# Altium schematic symbol library syhaunguyen.SchLib: 383 symbols (part 3 of 3)
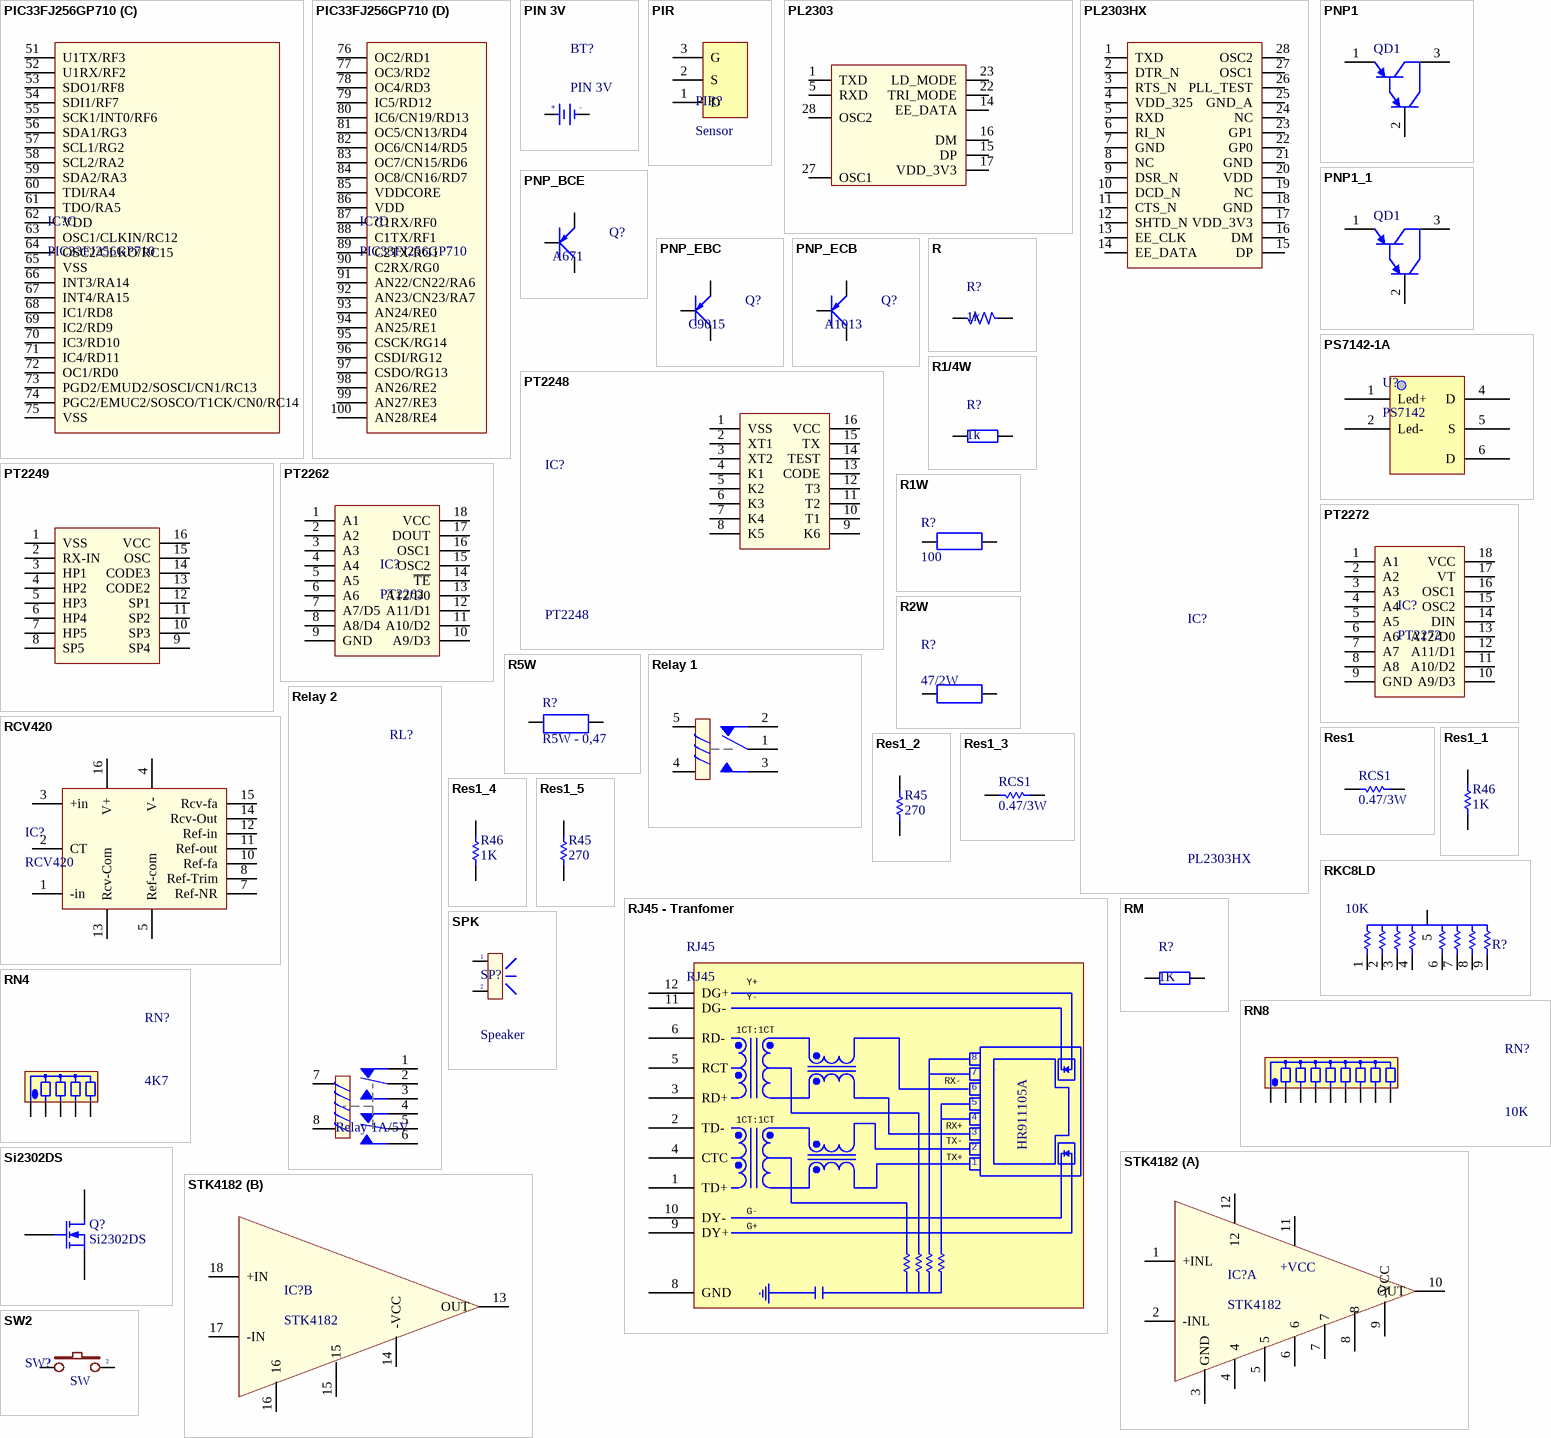
[diagram p16: symbols PIC33FJ256GP710 to SW2]

## PT2249
designator IC?
Remote Control Receiver; Value: PT2249
footprint DIP16/W0.3 (16 PIN, W 300mil, Pin to pin 100mil)
pins: 1 VSS, 2 RX-IN, 3 HP1, 4 HP2, 5 HP3, 6 HP4, 7 HP5, 8 SP5, 9 SP4, 10 SP3, 11 SP2, 12 SP1, 13 CODE2, 14 CODE3, 15 OSC, 16 VCC

## PT2262
designator IC?
Remote Control Encoder
footprint DIP18/W0.3 (18 PIN, W 300mil, Pin to pin 100mil)
pins: 1 A1, 2 A2, 3 A3, 4 A4, 5 A5, 6 A6, 7 A7/D5, 8 A8/D4, 9 GND, 10 A9/D3, 11 A10/D2, 12 A11/D1, 13 A12/D0, 14 ~{TE}, 15 OSC2, 16 OSC1, 17 DOUT, 18 VCC

## PT2272
designator IC?
Remote Control Decoder
footprint DIP18/W0.3 (18 PIN, W 300mil, Pin to pin 100mil)
pins: 1 A1, 2 A2, 3 A3, 4 A4, 5 A5, 6 A6, 7 A7, 8 A8, 9 GND, 10 A9/D3, 11 A10/D2, 12 A11/D1, 13 A12/D0, 14 DIN, 15 OSC2, 16 OSC1, 17 VT, 18 VCC

## R
designator R?, comment 1k
Resistor 1/4W; Value: R1/4W - 1K
footprint SM-RES-1206
pins: 1, 2

## R1/4W
designator R?, comment 1k
Resistor 1/4W; Value: R1/4W - 1K
footprint R1/4W (R 1/4W, 2 Pin, 350mil)
footprint R1/8W (R 1/8W, 2 pin, 300mil)
footprint R1/2W (R 1/2W, 2 pin, 400mil)
footprint R1/4WD (R 1/4W, 2 Pin, 150mil)
footprint SM-RES-0805
pins: 1, 2

## R1W
designator R?, comment 100
Resistor 1W; Value: R1W - 100
footprint R1W (R 1W, 2 pin, 500mil)
footprint R1WD (R 1W, 2 pin, 500mil)
pins: 1, 2

## R2W
designator R?, comment 47/2W
Resistor 2W; Value: R2W - 47
footprint R2W (R2W, 2 pin, 700mil)
footprint R2WD (R2W, 2 pin, 700mil)
pins: 1, 2

## R5W
designator R?, comment R5W - 0,47
Resistor 5W; Value: R5W - 0,47R
footprint R5W (R5W , 2 pin, 950mil)
footprint R5WD (R5W , 2 pin, 300 x 600 mil)
pins: 1 "R5W", 2 "R5W"

## RCV420
designator IC?
Precision 4mA to 20mA  CURRENT LOOP RECEIVER; Designed by: VanDungEvn; Value: RCV420
footprint DIP16/W0.3 (16 PIN, W 300mil, Pin to pin 100mil)
pins: 1 -in, 2 CT, 3 +in, 4 V-, 5 Ref-com, 7 Ref-NR, 8 Ref-Trim, 10 Ref-fa, 11 Ref-out, 12 Ref-in, 13 Rcv-Com, 14 Rcv-Out, 15 Rcv-fa, 16 V+

## Relay 1
designator RL?, comment Relay 10A/12V
Relay SPDT,10A - 12VDC 5 Pin; Value: Relay SPDT, 10A, 12V
footprint RL_SPDT_10A (Relay SPDT, 5 pin, 10A,W 650mil, L 800mil, H 800mil)
footprint RL_T78
pins: 1, 2, 3, 4, 5

## Relay 2
designator RL?, comment Relay 1A/5V
Relay DPDT; Discription: Relay DPDT 5V, 12V - 1A - 5A; Value: Relay - 5V - 1A
footprint RL_DPDT_5A (Reley DPDT, 8 pin, 5A, W500mil, L1100mil,H 950mil)
footprint RL_DPDT_1A (Reley DPDT, 8 pin, 1A, W400mil, L800mil,H 300mil)
pins: 1, 2, 3, 4, 5, 6, 7, 8

## Res1
designator RCS1  value 0.47/3W  (hidden comment: Res1)
Resistor; Manufacturer: Generic Components; Class: Passive; Published: 08/06/2000; Publisher: Altium Hobart Technology Centre; SubClass: Resistor
footprint R1WD (R 1W, 2 pin, 500mil)
pins: 1, 2

## Res1_1
designator R46, comment value 1K  (hidden comment: Res1)
Resistor; Manufacturer: Generic Components; Class: Passive; Published: 08/06/2000; Publisher: Altium Hobart Technology Centre; SubClass: Resistor
footprint TRO_NHO
simulation model RESISTOR (Resistor)
signal-integrity model Res1
footprint R1/4W
pins: 1, 2

## Res1_2
designator R45, comment value 270  (hidden comment: Res1)
Resistor; Manufacturer: Generic Components; Class: Passive; Published: 08/06/2000; Publisher: Altium Hobart Technology Centre; SubClass: Resistor
footprint TRO_NHO
simulation model RESISTOR (Resistor)
signal-integrity model Res1
footprint R1/4W1 (R 1/4W, 2 Pin, 150mil)
pins: 1, 2

## Res1_3
designator RCS1, comment value 0.47/3W  (hidden comment: Res1)
Resistor; Manufacturer: Generic Components; Class: Passive; Published: 08/06/2000; Publisher: Altium Hobart Technology Centre; SubClass: Resistor
footprint R1WD (R 1W, 2 pin, 500mil)
pins: 1, 2

## Res1_4
designator R46, comment value 1K  (hidden comment: Res1)
Resistor; Manufacturer: Generic Components; Class: Passive; Published: 08/06/2000; Publisher: Altium Hobart Technology Centre; SubClass: Resistor
footprint TRO_NHO
simulation model RESISTOR (Resistor)
signal-integrity model Res1
footprint R1/4W
pins: 1, 2

## Res1_5
designator R45, comment value 270  (hidden comment: Res1)
Resistor; Manufacturer: Generic Components; Class: Passive; Published: 08/06/2000; Publisher: Altium Hobart Technology Centre; SubClass: Resistor
footprint TRO_NHO
simulation model RESISTOR (Resistor)
signal-integrity model Res1
footprint R1/4W1 (R 1/4W, 2 Pin, 150mil)
pins: 1, 2

## RJ45 - Tranfomer
designator RJ45, comment RJ45
footprint RJ45 Tranfomer
pins: 1 TD+, 2 TD-, 3 RD+, 4 CTC, 5 RCT, 6 RD-, 8 GND (power), 9 DY+, 10 DY-, 11 DG-, 12 DG+
text: Y+; Y-; 1CT:1CT; 7; RX-; RX+; TX-; HR911105A; TX+; G-; G+

## RKC8LD
designator R?, comment 10K
Resistor Pack 4x2; Value: 10K
footprint RN8 (R SIP8, 9 Pin)
pins: 1, 2, 3, 4, 5, 6, 7, 8, 9

## RM
designator R?, comment 1K
Resistor SMD; Value: 1K
footprint SM-1206 (Compoment SMD 120x60mil)
footprint SM-0805 (Compoment SMD 80x50mil)
pins: 1, 2

## RN4
designator RN?, comment 4K7
Resistor 4 (thanh); Value: Tro thanh 4K7
footprint RN4 (R SIP4, 5 Pin)
pins: 1, 2, 3, 4, 5

## RN8
designator RN?, comment 10K
Resistor 8 (Thanh); Value: Tro thanh 10K
footprint RN8 (R SIP8, 9 Pin)
pins: 1, 2, 3, 4, 5, 6, 7, 8, 9

## Si2302DS
designator Q?
N-Channel MOSFET; Published: 8-Jun-2000; LatestRevisionDate: 17-Jul-2002; LatestRevisionNote: Re-released for DXP Platform.; PackageVersion: 1995/1996; PackageReference: E3; Publisher: Altium Limited; PackageDescription: TO, Flat Index; 3 In-Line, Axial Leads; Body Dia. 4.6mm; Lead Dia. 0.5 mm (max)
footprint SOT23 (SOT 23 _ 1-3-2)
pins: 1 G, 2 S, 3 D

## SPK
designator SP?, comment Speaker
Speaker Chip; Value: Speaker Chip
footprint SPK (Speaker Chip)
footprint SP1 (Speaker Telphone on Broad)
pins: 1, 2

## STK4182
designator IC?
AF Power Amplifier 2x10W
footprint STK4182 (Pin to pin 100mil, 18 pin)
part A pins: 1 +INL, 2 -INL, 3 GND, 4, 5, 6, 7, 8, 9 -VCC, 10 OUT, 11 +VCC, 12
part B pins: 13 OUT, 14 -VCC, 15, 16, 17 -IN, 18 +IN

## SW2
designator SW?, comment SW
Switch button 2 pin; Value: SW chip 2 pin
footprint SW2 (SW button 2pin, 250x 250 mil)
pins: 1, 2

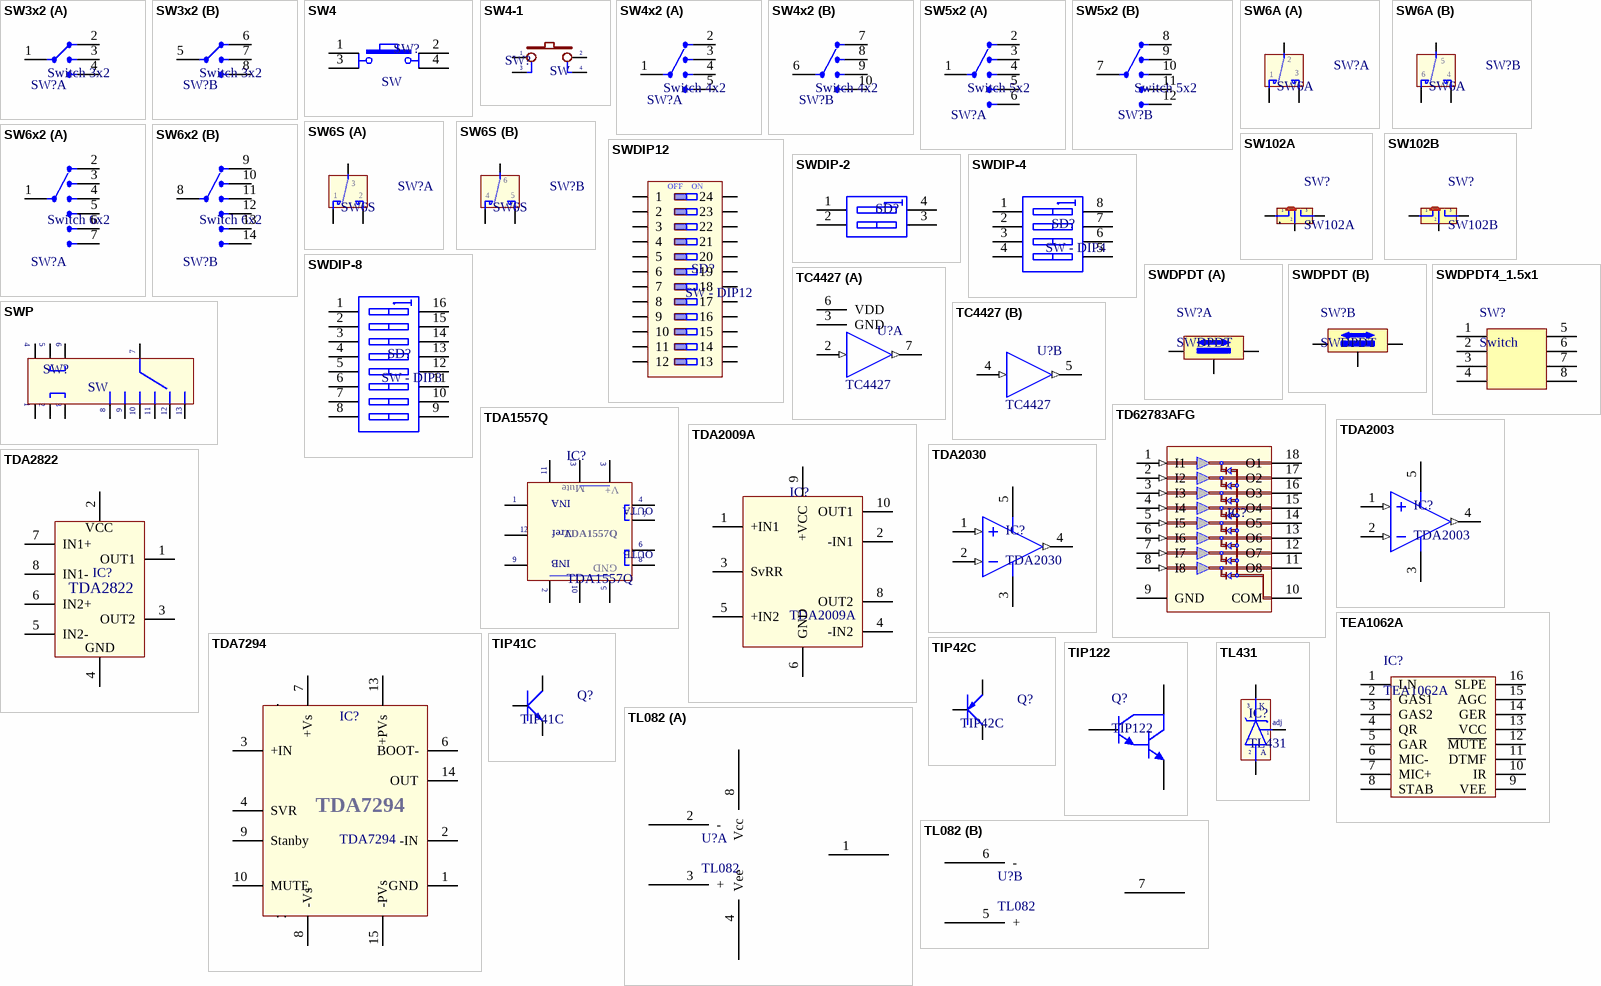
[diagram p12: symbols SW3x2 to TL431]

## SW3x2
designator SW?, comment Switch 3x2
Value: Switch 4x2
footprint SW3X2 (Switch 3x2 - pin to pin 80)
part A pins: 1 Com, 2 I/O1, 3 I/O2, 4 I/O3
part B pins: 5 I/O10, 6 I/O9, 7 Com2, 8 I/O6

## SW4
designator SW?, comment SW
Switch button 4 pin; Value: Button chip 4 pin
footprint SW4 (SW button 4pin, 250 x250 mil)
footprint SW4B (SW button 4pin, 450 x 450 mil)
pins: 1, 2, 3, 4

## SW4-1
designator SW?, comment SW
Switch button 4 pin; Value: SW chip 4 pin
footprint SW4 (SW button 4pin, 250 x250 mil)
footprint SW4B (SW button 4pin, 450 x 450 mil)
pins: 1, 2, 3, 4

## SW4x2
designator SW?, comment Switch 4x2
Value: Switch 4x2
footprint SW4X2 (Switch 4x2)
part A pins: 1 Com, 2 I/O1, 3 I/O2, 4 I/O3, 5 I/O4
part B pins: 6 I/O9, 7 Com2, 8 I/O6, 9 I/O7, 10 I/O8

## SW5x2
designator SW?, comment Switch 5x2
Value: Switch 5x2
footprint SW5X2 (Switch 5x2)
part A pins: 1 Com, 2 I/O1, 3 I/O2, 4 I/O3, 5 I/O4, 6 I/O5
part B pins: 7 Com2, 8 I/O6, 9 I/O7, 10 I/O8, 11 I/O9, 12 I/O10

## SW6A
designator SW?
SW-DTDP - 6 Pin; Value: SW6
footprint SW6 (SW DTDP - 6Pin 260x300x300 mil)
part A pins: 1, 2, 3
part B pins: 4, 5, 6

## SW6S
designator SW?
SW-DTDP - 6 Pin; Value: SW6
footprint SW6 (SW DTDP - 6Pin 260x300x300 mil)
part A pins: 1, 2, 3
part B pins: 4, 5, 6

## SW6x2
designator SW?, comment Switch 6x2
Value: Switch 6x2
footprint SW6X2 (Switch 6x2)
part A pins: 1 Com, 2 I/O1, 3 I/O2, 4 I/O3, 5 I/O4, 6 I/O5, 7 I/O6
part B pins: 8 I/O6, 9 I/O7, 10 I/O8, 11 I/O9, 12 I/O10, 13 I/O11, 14 I/O12

## SW102A
designator SW?
Switch 102 on Broad; Value: Switch 102 On Board
footprint SW102 (Switch 102 On Board nho)
footprint SW102T (Switch 102 On Board To)
pins: 1, 2, 3, 4, 5

## SW102B
designator SW?
Switch 102 on Broad; Value: Switch 102 On Board
footprint SW-GAT
footprint SW102T (Switch 102 On Board To)
pins: 1, 2, 3

## SWDIP12
designator SD?, comment SW - DIP12
DIP Switch, 12 Position, SPST; Value: SW - DIP12
footprint DIP24/W0.3 (DIP24/W.300, Pin to pin 100mil)
pins: 1, 2, 3, 4, 5, 6, 7, 8, 9, 10, 11, 12, 13, 14, 15, 16, 17, 18, 19, 20, 21, 22, 23, 24
text: OFF; ON

## SWDIP-2
designator SD?, comment SW - DIP2  (value not drawn)
DIP Switch, 2 Position, SPST; Value: SW - DIP2
footprint DIP4/W0.3 KEY (4 PIN, W 400mil , L 450mil,Pin to pin 100mil)
pins: 1 A1, 2 A2, 3 A3, 4 A4

## SWDIP-4
designator SD?, comment SW - DIP4
DIP Switch, 4 Position, SPST; Value: SW - DIP4
footprint DIP8/W0.3 KEY (8 PIN, W 400mil , L 450mil, Pin to pin 100mil)
pins: 1 A1, 2 A2, 3 A3, 4 A4, 5 B4, 6 B3, 7 B2, 8 B1

## SWDIP-8
designator SD?, comment SW - DIP8
DIP Switch, 8 Position, SPST; Value: SW - DIP8
footprint DIP16/W0.3 KEY (16 PIN, W 300mil, Pin to pin 100mil)
simulation model dpsw8 (Spice Subcircuit)
pins: 1 A1, 2 A2, 3 A3, 4 A4, 5 A5, 6 A6, 7 A7, 8 A8, 9 B8, 10 B7, 11 B6, 12 B5, 13 B4, 14 B3, 15 B2, 16 B1

## SWDPDT
designator SW?
Switch SPDT; Creat by: VanDungEvn@Gmail.com
footprint SWDPDT_1.5x1 (Switch DPDT, Pin to Pin 150mil, Row to Row 100mil)
footprint SWDPDT_1.5x2 (Switch DPDT, Pin to Pin 150mil, Row to Row 200mil)
part A pins: 1, 2, 3
part B pins: 4, 5, 6

## SWDPDT4_1.5x1
designator SW?, comment Switch
Switch 1-3 x2
footprint SWDPDT4_1.5x1 (Switch 3 DPDT, Pin to Pin 150mil, Row to Row 100mil)
pins: 1, 2, 3, 4, 5, 6, 7, 8

## SWP
designator SW?, comment SW
Switch Power; Value: SW Power
footprint SWP (SW Power)
pins: 1, 2, 3, 4, 5, 6, 7, 8, 9, 10, 11, 12, 13

## TC4427
designator U?
footprint DIP 8
part A pins: 1 NC (power) hidden, 2 A (in), 3 GND (power), 6 VDD (power), 7 Y (out), 8 NC (power) hidden
part B pins: 4 A (in), 5 Y (out)

## TD62783AFG
designator IC?  (value not drawn)
High-Voltage, High-Current Darlington Array; Value: TD62783AFG
footprint DIP18/W0.3 (18 PIN, W 300mil, Pin to pin 100mil)
pins: 1 I1 (in), 2 I2 (in), 3 I3 (in), 4 I4 (in), 5 I5 (in), 6 I6 (in), 7 I7 (in), 8 I8 (in), 9 GND (power), 10 COM, 11 O8 (oc), 12 O7 (oc), 13 O6 (oc), 14 O5 (oc), 15 O4 (oc), 16 O3 (oc), 17 O2 (oc), 18 O1 (oc)

## TDA1557Q
designator IC?
2 x 22 W BTL stereo car radio power amplifier with speaker protection; Value: TDA1557Q
footprint DIP13/S1 (13 Pin so le hai hang cach nhau 200mil., Pin to pin 100mil)
pins: 1 IN1, 2 GND, 3 V+, 4 OUT1A, 5 GND, 6 OUT1B, 7 OUT2A, 8 OUT2B, 9 IN2, 10 GND, 11 Mute, 12 Vref, 13 V+
text: INA; OUTA; OUTB; INB

## TDA2003
designator IC?
10W CAR RADIO AUDIO AMPLIFIER; Value: TDA2003
footprint DIP5SL1
pins: 1 IN+ (in), 2 IN- (in), 3 V- (power), 4 OUT (out), 5 V+ (power)

## TDA2009A
designator IC?
2 x 10 W BTL stereo car radio power amplifier with speaker protection; Value: TDA1557Q
footprint DIP11/S1 (11 Pin so le hai hang cach nhau 200mil., Pin to pin 100mil)
pins: 1 +IN1, 2 -IN1, 3 SvRR, 4 -IN2, 5 +IN2, 6 GND, 8 OUT2, 9 +VCC, 10 OUT1

## TDA2030
designator IC?
14W Hi-Fi AUDIO AMPLIFIER; Value: TDA2030
footprint DIP5SL1
pins: 1 IN+ (in), 2 IN- (in), 3 V- (power), 4 OUT (out), 5 V+ (power)

## TDA2822
designator IC?  (value not drawn)
Dual Low Voltage Power Amplifire
footprint DIP8/W0.3 (8 PIN, W 300mil, Pin to pin 100mil)
pins: 1 OUT1, 2 VCC, 3 OUT2, 4 GND "VCC", 5 IN2- "VCC", 6 IN2+ "VCC", 7 IN1+ "VCC", 8 IN1- "VCC"

## TDA7294
designator IC?
100V - 100W DMOS AUDIO AMPLIFIER WITH MUTE/ST-BY; Value: TDA1557Q
footprint DIP15SL2 (TO, Thru-Hole, Vertical, Heatsink Mounted; 15 Bent Staggered Leads; Pitch 1.27 mm)
pins: 1 GND, 2 -IN, 3 +IN, 4 SVR, 5 NC, 6 BOOT-, 7 +Vs, 8 -Vs, 9 Stanby, 10 MUTE, 11 NC, 12 NC, 13 +PVs, 14 OUT, 15 -PVs

## TEA1062A
designator IC?
Low voltage transmission circuits with dialler interface; Creat by: VanDungEvn@Gmail.com
footprint DIP16/W0.3 (16 PIN, W 300mil, Pin to pin 100mil)
pins: 1 LN, 2 GAS1, 3 GAS2, 4 QR, 5 GAR, 6 MIC-, 7 MIC+, 8 STAB, 9 VEE, 10 IR, 11 DTMF, 12 ~{MUTE}, 13 VCC, 14 GER, 15 AGC, 16 SLPE

## TIP41C
designator Q?
NPN 2W, BCE; Value: TIP41C
footprint QTO-220 (TO-220 - 1-2-3)
pins: 1 B, 2 C, 3 E

## TIP42C
designator Q?
PNP 2W, BCE; Value: TIP42C
footprint QTO-220 (TO-220 - 1-2-3)
pins: 1 B, 2 C, 3 E

## TIP122
designator Q?
Darlington Silicon Power NPN Transistor, 8 Amp, 100 Volts and 65 Watts
footprint QTO-220 (TO-220 - 1-2-3)
pins: 1 B, 2 C, 3 E

## TL082
designator U?
Wide Bandwidth Dual JFET Input Operational Amplifier
footprint DIP8/W0.3 (8 PIN, W 300mil, Pin to pin 100mil)
part A pins: 1, 2 -, 3 +, 4 Vee (power), 8 Vcc (power)
part B pins: 5 +, 6 -, 7

## TL431
designator IC?
Programmable Shunt Regulator; Value: TL431
footprint qto-92 (TO-92)
pins: 1 adj, 2 A, 3 K

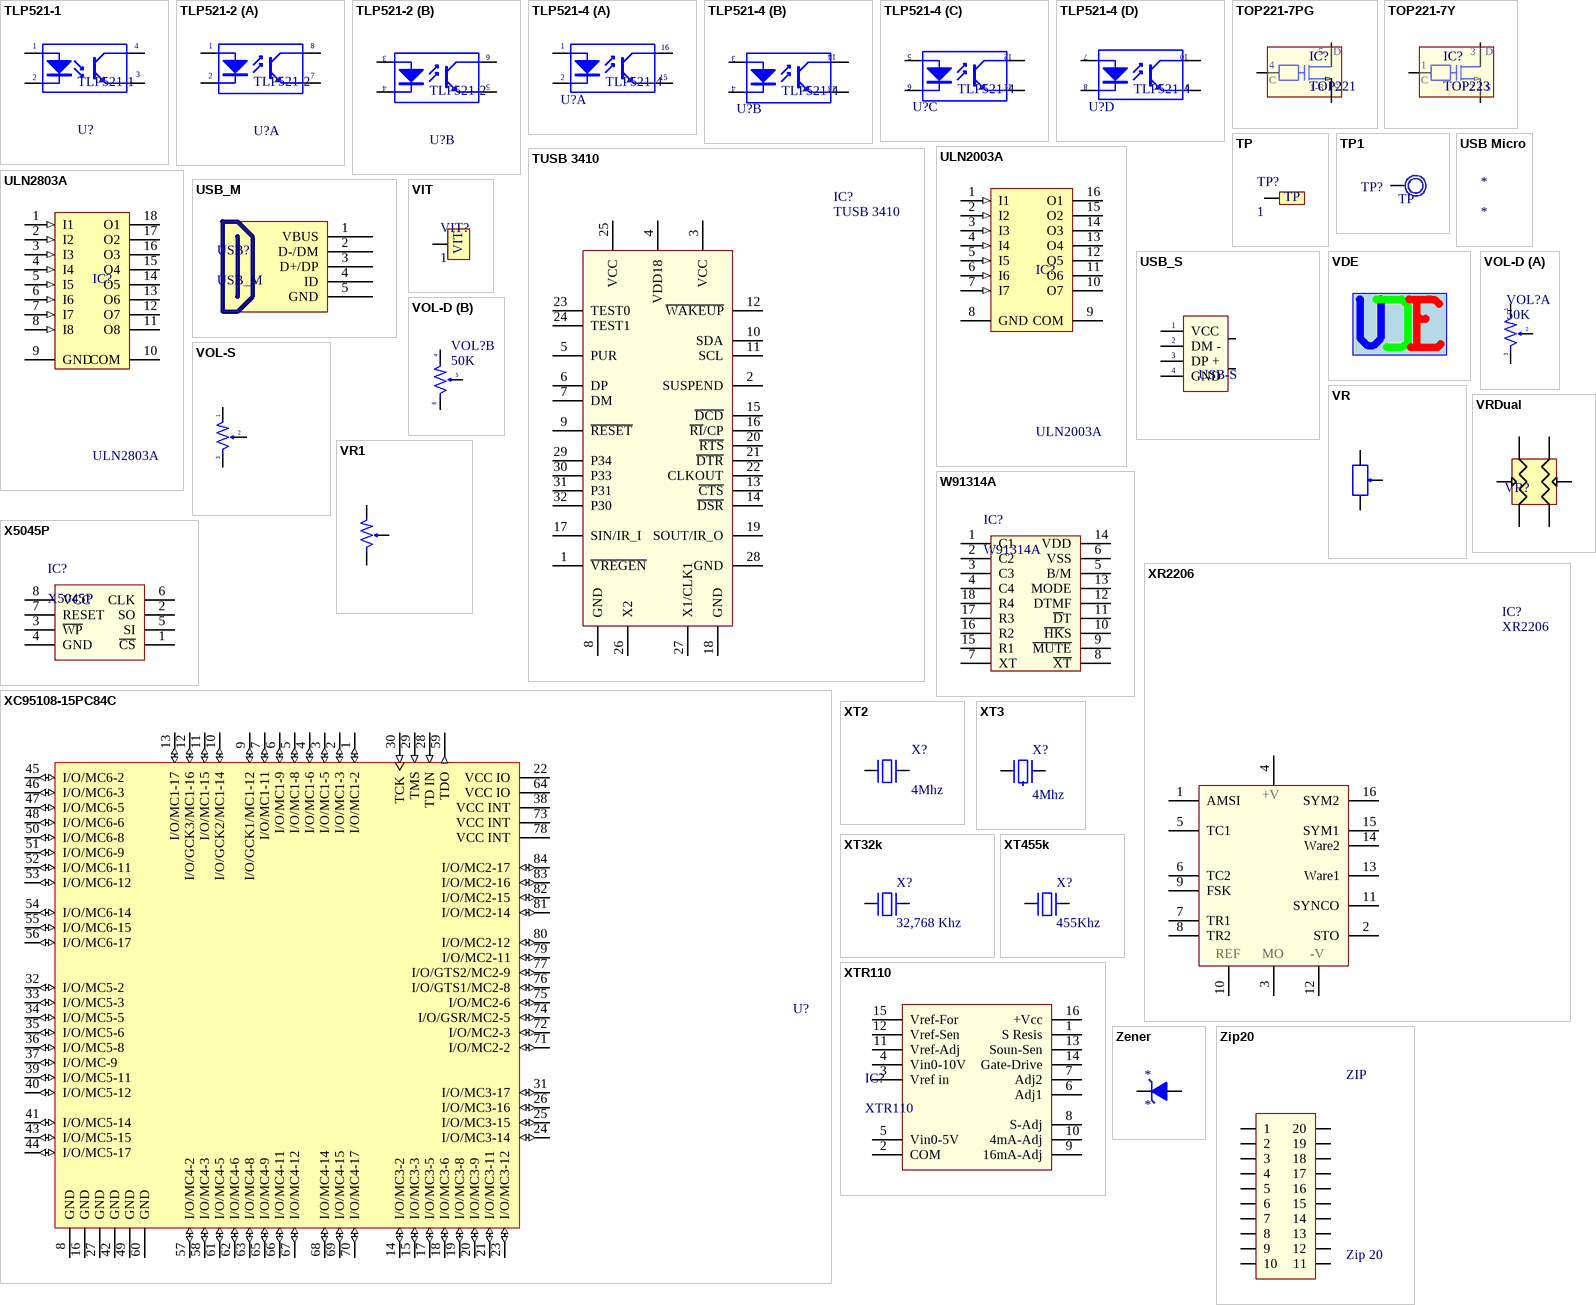
[diagram p13: symbols TLP521-1 to Zip20]

## TLP521-1
designator U?
Single Opto; Value: TLP5211
footprint DIP4/W0.3 (4 PIN, W 300mil, Pin to pin 100mil)
pins: 1 A "Anode", 2 K "Cathode", 3 E "Emitter", 4 C "Collector"

## TLP521-2
designator U?
Dual Opto; Value: TLP521-2
footprint DIP8/W0.3 (8 PIN, W 300mil)
part A pins: 1 A "Anode", 2 K "Cathode", 7 E "Emitter", 8 C "Collector"
part B pins: 3 A "Anode", 4 K "Cathode", 5 E "Emitter", 6 C "Collector"

## TLP521-4
designator U?
Four Opto; Value: TLP521-4
footprint DIP16/W0.3 (16 PIN, W 300mil, Pin to pin 100mil)
part A pins: 1 A "Anode", 2 K "Cathode", 15 E "Emitter", 16 C "Collector"
part B pins: 3 A "Anode", 4 K "Cathode", 13 E "Emitter", 14 C "Collector"
part C pins: 5 A "Anode", 6 K "Cathode", 11 E "Emitter", 12 C "Collector"
part D pins: 7 A "Anode", 8 K "Cathode", 9 E "Emitter", 10 C "Collector"

## TOP221-7PG
designator IC?, comment TOP221
Family Three-terminal Off-line PWM Switch
footprint DIP8/W0.3 (8 PIN, W 300mil, Pin to pin 100mil)
footprint SO-8 (8-Pin Small Outline Integrated Circuit 1.27 mm Pitch, IPC Medium Density)
pins: 1 S, 2 S, 3 S, 4 C, 5 D, 6 S, 7 S, 8 S
text: 1-8

## TOP221-7Y
designator IC?, comment TOP223
Family Three-terminal Off-line PWM Switch; Designed by: VanDungEvn
footprint QTO-220 (TO-220 - 1-2-3)
pins: 1 C, 2 C, 3 C
text: D; S

## TP
designator TP?, comment 1
CONNECT 1
footprint TP (Footprint not found)
pins: TP1 0

## TP1
designator TP?, comment TP
Test Point; Value: Test Point
footprint TP1 (Test point)
footprint TP6 (Jac cap 6ly)
pins: 1

## TUSB 3410
designator IC?
USB to RS232 Converter; Value: TUSB 3410
footprint QFP7X7-G32/X.45N (QFP; 32 Leads; Body 7 x 7 mm; Pitch 0.8 mm)
pins: 1 ~{VREGEN}, 2 SUSPEND, 3 VCC, 4 VDD18, 5 PUR, 6 DP, 7 DM, 8 GND, 9 ~{RESET}, 10 SDA, 11 SCL, 12 ~{WAKEUP}, 13 ~{CTS}, 14 ~{DSR}, 15 ~{DCD}, 16 ~{RI}/CP, 17 SIN/IR_I, 18 GND, 19 SOUT/IR_O, 20 ~{RTS}, 21 ~{DTR}, 22 CLKOUT, 23 TEST0, 24 TEST1, 25 VCC, 26 X2, 27 X1/CLK1, 28 GND, 29 P34, 30 P33, 31 P31, 32 P30

## ULN2003A
designator IC?
High-Voltage, High-Current Darlington Array; LatestRevisionNote: Stylized 3D Model Added.; Publisher: Altium Limited; Value: ULN2003A
footprint DIP16/W0.3 (16 PIN, W 300mil, Pin to pin 100mil)
footprint SO-G16/X.6 (Small Outline; 16 Leads; Body Width 5.3 mm; Pitch 1.27 mm)
pins: 1 I1 (in), 2 I2 (in), 3 I3 (in), 4 I4 (in), 5 I5 (in), 6 I6 (in), 7 I7 (in), 8 GND (power), 9 COM, 10 O7 (oc), 11 O6 (oc), 12 O5 (oc), 13 O4 (oc), 14 O3 (oc), 15 O2 (oc), 16 O1 (oc)

## ULN2803A
designator IC?
High-Voltage, High-Current Darlington Array; LatestRevisionNote: Stylized 3D Model Added.; Publisher: Altium Limited; Value: ULN2803A
footprint DIP18/W0.3 (18 PIN, W 300mil, Pin to pin 100mil)
pins: 1 I1 (in), 2 I2 (in), 3 I3 (in), 4 I4 (in), 5 I5 (in), 6 I6 (in), 7 I7 (in), 8 I8 (in), 9 GND (power), 10 COM, 11 O8 (oc), 12 O7 (oc), 13 O6 (oc), 14 O5 (oc), 15 O4 (oc), 16 O3 (oc), 17 O2 (oc), 18 O1 (oc)

## USB Micro
designator *

## USB_M
designator USB?
footprint USB_B_MINI
footprint USB_B_MINI_SMD
pins: 1 VBUS, 2 D-/DM, 3 D+/DP, 4 ID, 5 GND

## USB_S
designator USB?, comment USB-S
USB connector; Value: USB
footprint USB-S2 (USB B connector, 4pin, For Print)
footprint USB-S1 (USB A connector, 4pin, For USB sing)
footprint USB-M (For USB SMD)
pins: 1 VCC, 2 DM -, 3 DP +, 4 GND, 5, 6

## VDE
designator VDE  (value not drawn)
VanDungEvn
footprint VDE (VDE - SM)

## VIT
designator VIT?, comment 1
Oc Vit
footprint VIT
pins: VIT1 1

## VOL-D
designator VOL?, comment 50K
Volume control Dual; Value: Volume Dual 50K
footprint VOL-D (Volume control Dual)
part A pins: 1, 2, 3
part B pins: 4, 5, 6

## VOL-S
designator VOL?, comment 50K
Var Resistor; Value: Volume 50k
footprint VOL-S (Volume control single)
footprint VOL_SMD
pins: 1, 2, 3

## VR
designator VR?, comment 10K
Var Resistor; Value: VR 10K
footprint VR1 (Variable Resistor)
footprint VR (Resistor Variable)
footprint VR2
pins: 1, 2, 3

## VR1
designator VR?, comment 10K
Var Resistor; Value: VR 10K
footprint VR1 (Variable Resistor)
footprint VR (Resistor Variable)
footprint VR2
pins: 1, 2, 3

## VRDual
designator VR?  (value not drawn)
footprint VOL-D (Volume control Dual)
pins: 1, 2, 3, 4, 5, 6

## W91314A
designator IC?
TONE/PULSE DIALER WITH  REDIAL FUNCTION; Creat by: VanDungEvn@Gmail.com
footprint DIP18/W0.3 (18 PIN, W 300mil, Pin to pin 100mil)
pins: 1 C1, 2 C2, 3 C3, 4 C4, 5 B/M, 6 VSS, 7 XT, 8 ~{XT}, 9 ~{MUTE}, 10 ~{HK}S, 11 ~{D}T, 12 DTMF, 13 MODE, 14 VDD, 15 R1, 16 R2, 17 R3, 18 R4

## X5045P
designator IC?
4K SPI EEPROM
footprint DIP8/W0.3 (8 PIN, W 300mil, Pin to pin 100mil)
pins: 1 ~{CS}, 2 SO, 3 ~{WP}, 4 GND, 5 SI, 6 CLK, 7 RESET, 8 VCC

## XC95108-15PC84C
designator U?  (value not drawn)
Programmable CPLD; Class I: Programmable Logic Device; Class II: XC9500; Revision: 17-Jul-2002: Re-released for DXP Platform.; Value: XC95108
pins: 1 I/O/MC1-2 (io), 2 I/O/MC1-3 (io), 3 I/O/MC1-5 (io), 4 I/O/MC1-6 (io), 5 I/O/MC1-8 (io), 6 I/O/MC1-9 (io), 7 I/O/MC1-11 (io), 8 GND (power), 9 I/O/GCK1/MC1-12 (io), 10 I/O/GCK2/MC1-14 (io), 11 I/O/MC1-15 (io), 12 I/O/GCK3/MC1-16 (io), 13 I/O/MC1-17 (io), 14 I/O/MC3-2 (io), 15 I/O/MC3-3 (io), 16 GND (power), 17 I/O/MC3-5 (io), 18 I/O/MC3-6 (io), 19 I/O/MC3-8 (io), 20 I/O/MC3-9 (io), 21 I/O/MC3-11 (io), 22 VCC IO (power), 23 I/O/MC3-12 (io), 24 I/O/MC3-14 (io), 25 I/O/MC3-15 (io), 26 I/O/MC3-16 (io), 27 GND (power), 28 TD IN (in), 29 TMS (in), 30 TCK (in), 31 I/O/MC3-17 (io), 32 I/O/MC5-2 (io), 33 I/O/MC5-3 (io), 34 I/O/MC5-5 (io), 35 I/O/MC5-6 (io), 36 I/O/MC5-8 (io), 37 I/O/MC-9 (io), 38 VCC INT (power), 39 I/O/MC5-11 (io), 40 I/O/MC5-12 (io), 41 I/O/MC5-14 (io), 42 GND (power), 43 I/O/MC5-15 (io), 44 I/O/MC5-17 (io), 45 I/O/MC6-2 (io), 46 I/O/MC6-3 (io), 47 I/O/MC6-5 (io), 48 I/O/MC6-6 (io), 49 GND (power), 50 I/O/MC6-8 (io), 51 I/O/MC6-9 (io), 52 I/O/MC6-11 (io), 53 I/O/MC6-12 (io), 54 I/O/MC6-14 (io), 55 I/O/MC6-15 (io), 56 I/O/MC6-17 (io), 57 I/O/MC4-2 (io), 58 I/O/MC4-3 (io), 59 TDO (out), 60 GND (power), 61 I/O/MC4-5 (io), 62 I/O/MC4-6 (io), 63 I/O/MC4-8 (io), 64 VCC IO (power), 65 I/O/MC4-9 (io), 66 I/O/MC4-11 (io), 67 I/O/MC4-12 (io), 68 I/O/MC4-14 (io), 69 I/O/MC4-15 (io), 70 I/O/MC4-17 (io), 71 I/O/MC2-2 (io), 72 I/O/MC2-3 (io), 73 VCC INT (power), 74 I/O/GSR/MC2-5 (io), 75 I/O/MC2-6 (io), 76 I/O/GTS1/MC2-8 (io), 77 I/O/GTS2/MC2-9 (io), 78 VCC INT (power), 79 I/O/MC2-11 (io), 80 I/O/MC2-12 (io), 81 I/O/MC2-14 (io), 82 I/O/MC2-15 (io), 83 I/O/MC2-16 (io), 84 I/O/MC2-17 (io)

## XR2206
designator IC?
OSC Sine - Square - Triangle; Value: DIP 16; Value: XR2206
footprint DIP16/W0.3 (16 PIN, W 300mil)
pins: 1 AMSI, 2 STO, 3 MO, 4 +V, 5 TC1, 6 TC2, 7 TR1, 8 TR2, 9 FSK, 10 REF, 11 SYNCO, 12 -V, 13 Ware1, 14 Ware2, 15 SYM1, 16 SYM2

## XT2
designator X?, comment 4Mhz
Crystal For all Crystal 2pin.; Value: 4Mhz
footprint XT2 (Footpin for Crystal 2 pin)
footprint XT2N (Crystal 2pin, high 200 mil)
pins: 1, 2

## XT3
designator X?, comment 4Mhz
Crystal For all Crystal 2pin.; Value: 4Mhz
footprint XT3 (Crystal 3pin, High 200mil, Cremic)
pins: 1, 2, 3

## XT32k
designator X?, comment 32,768 Khz
Crystal 32,768kHz for timer real; Value: 32,768khz
footprint XT32k (Crystal 32k, 2 pin, real timer for DS1307)
pins: 1, 2

## XT455k
designator X?, comment 455Khz
Crystal 455kHz Infrared; Value: 32,768khz
footprint XT455k (Thach anh 455khz (Infrared))
footprint XT455KN (Thach anh 455khz)
pins: 1, 2

## XTR110
designator IC?
PRECISION VOLTAGE-TO-CURREN  CONVERTER/TRANSMITTER; Designed by: VanDungEvn; Value: XTR110
footprint DIP16/W0.3 (16 PIN, W 300mil, Pin to pin 100mil)
pins: 1 S Resis, 2 COM, 3 Vref in, 4 Vin0-10V, 5 Vin0-5V, 6 Adj1, 7 Adj2, 8 S-Adj, 9 16mA-Adj, 10 4mA-Adj, 11 Vref-Adj, 12 Vref-Sen, 13 Soun-Sen, 14 Gate-Drive, 15 Vref-For, 16 +Vcc

## Zener
designator *
footprint D1A (Diode 1A, W 100mil, L 350mil)
pins: 1 A, 2 K

## Zip20
designator ZIP, comment Zip 20
De 20 pin; Value: Gat 20 pin
footprint ZIP20 (DIP 20, W 600mil/ L 1600mil)
footprint DIP20/W0.3 (DIP 20, 20 PIN, W 300mil, Pin to pin 100mil)
pins: 1, 2, 3, 4, 5, 6, 7, 8, 9, 10, 11, 12, 13, 14, 15, 16, 17, 18, 19, 20

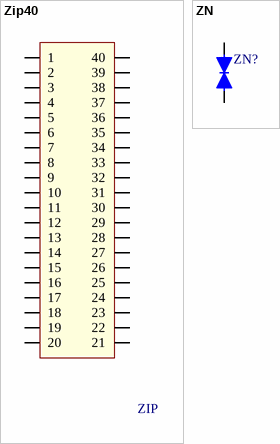
[diagram p14: symbols Zip40 to ZN]

## Zip40
designator ZIP, comment Zip 40  (value not drawn)
De 40 pin; Value: Gat 40 pin
footprint ZIP40 (40 PIN, W 900 mil , L 2600 mil , Push Pro FOR Chip)
footprint DIP40/W0.6 (40 PIN, W 600mil, Pin to pin 100mil)
footprint DIP40/W0.3 (40 PIN, W 300mil, Pin to pin 100mil)
pins: 1, 2, 3, 4, 5, 6, 7, 8, 9, 10, 11, 12, 13, 14, 15, 16, 17, 18, 19, 20, 21, 22, 23, 24, 25, 26, 27, 28, 29, 30, 31, 32, 33, 34, 35, 36, 37, 38, 39, 40

## ZN
designator ZN?, comment Z  (value not drawn)
Zenner Protect AC in; Value: Zenner Protect AC input
footprint CN4 (Cap np W 0.4)
pins: 1, 2